# EAGLE library part AD8132 (library Zoli2_2015-02-22)
Differential I/O high speed amplifier
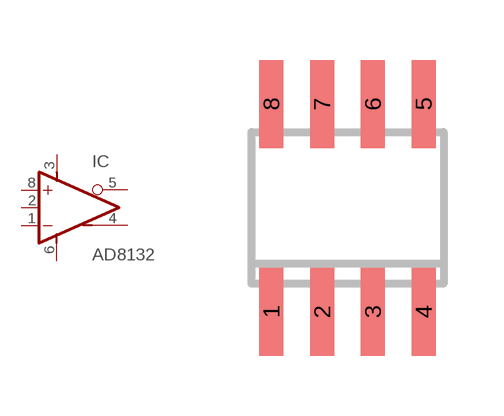
[diagram p22: symbol with the pads of SO08; footprint SO08]

Designator prefix IC

## AD8132AR  [SO08]
1  -IN  in
2  CM  in
3  V+  pwr
4  OUT+  out
5  OUT-  out
6  V-  pwr
8  +IN  in

## Footprint SO08 (pad centres in mm)
Small Outline Package 8
smd 0.6 x 2.2: 1 -1.905,-2.6; 2 -0.635,-2.6; 3 0.635,-2.6; 4 1.905,-2.6; 5 1.905,2.6; 6 0.635,2.6; 7 -0.635,2.6; 8 -1.905,2.6